# Altium footprint library uControllerTemplate2021.PcbLib: 18 footprints (part 1 of 2)
Each footprint in its own frame and in the unit in brackets; x right, y up, seen from the top. Pads: shape width x height; smd on the part's side, far side on the other; paste and mask are expansions set on the pad; w line width, h text height; cw(c..) or ccw(c..) is an arc to the next point about the centre after c.
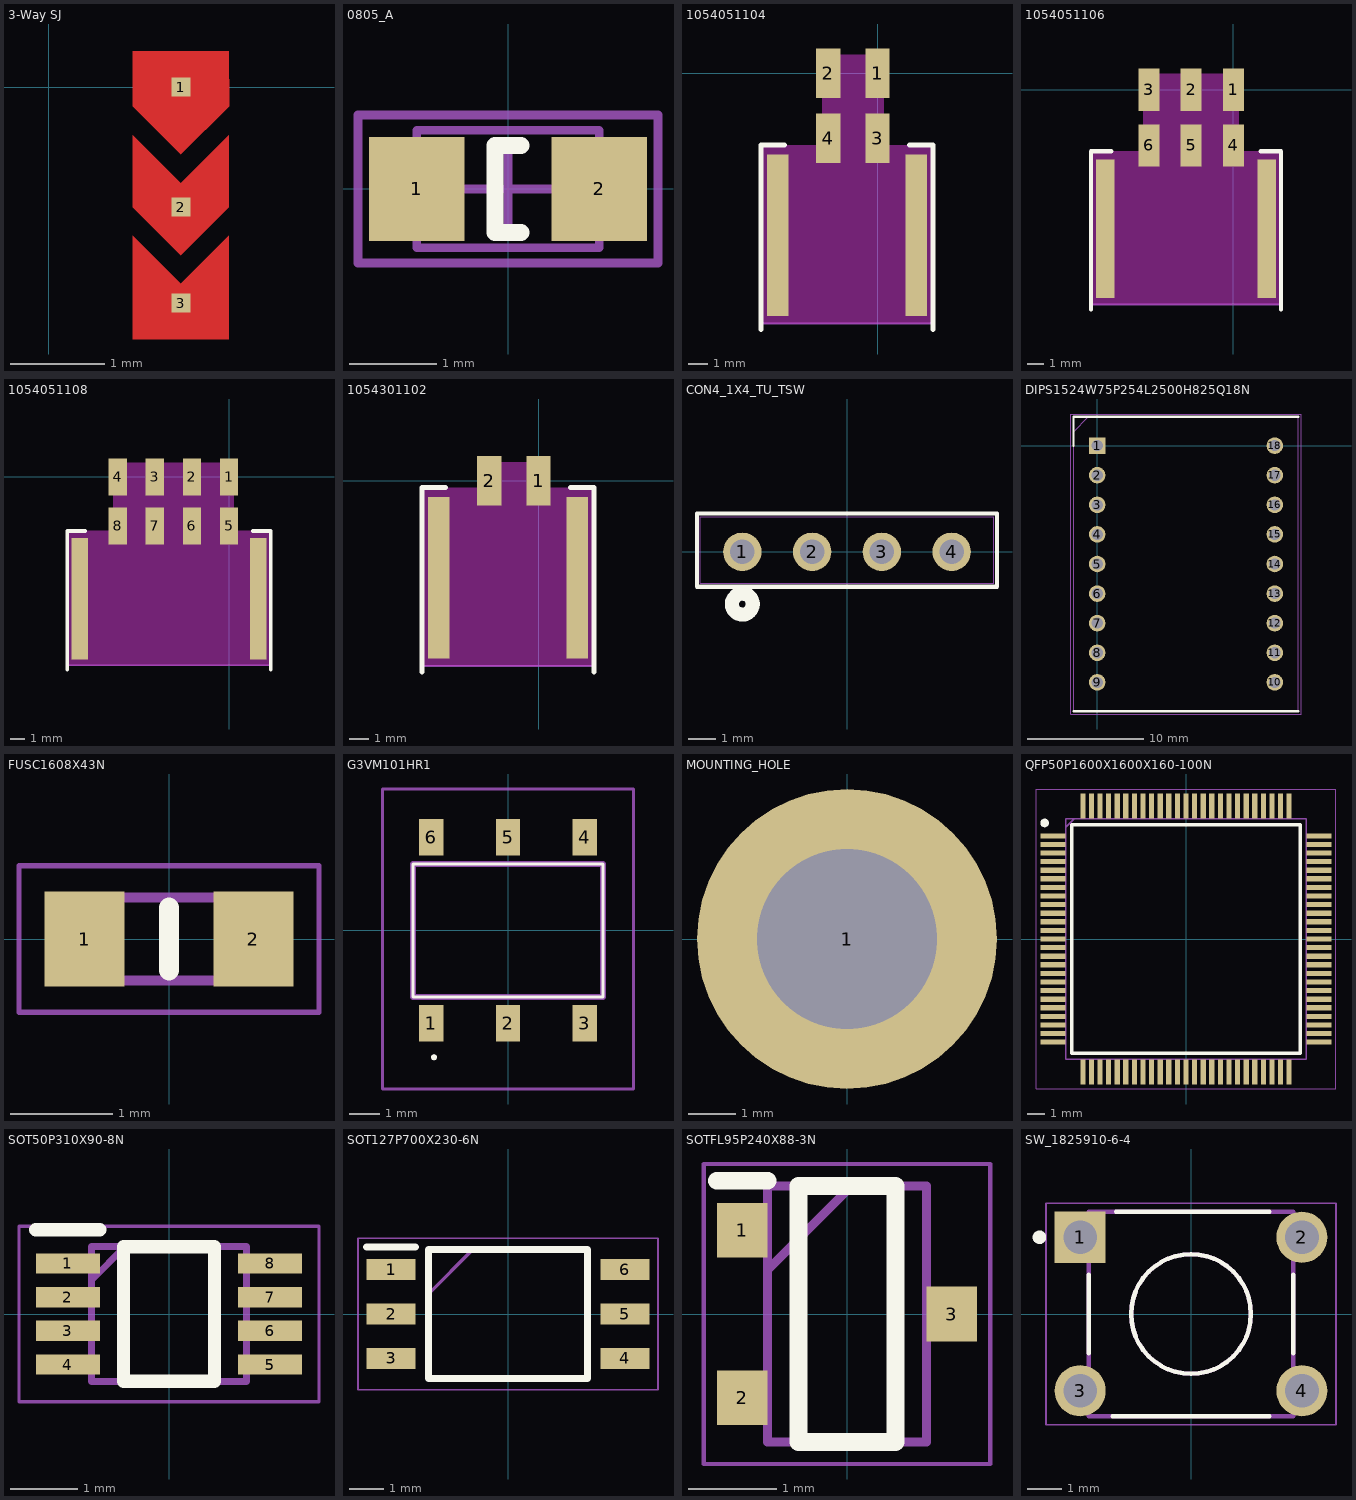
[diagram p0: the footprints below, top view; thin cyan lines are the x and y axes]

## 3-Way SJ [mm]
pads (3):
  rect 0.2x0.2 smd mask+0: 1(1.397,0) 2(1.397,-1.27) 3(1.397,-2.286)
Top Layer:
  region: 0.889,0.381 0.889,-0.203 1.397,-0.711 1.905,-0.203 1.905,0.381
  pour cut-out: 0.635,0.508
  pour cut-out: 0.889,-0.508
  region: 0.889,-0.508
  region: 0.889,-0.508 0.889,-1.27 1.397,-1.778 1.905,-1.27 1.905,-0.508 1.397,-1.016
  region: 0.889,-1.575 0.889,-2.667 1.905,-2.667 1.905,-1.575 1.397,-2.083

## 0805_A [mm] "Chip LED, 2-Leads, Body 2.0x1.3mm, IPC Medium Density"
height 0.8
pads (2):
  rect 1.1x1.2 smd: 1(-1.05,0) 2(1.05,0)
Top Overlay:
  lines w0.2: 0.15,-0.5 -0.15,-0.5 -0.15,0.5 0.15,0.5
Mechanical 13:
  lines w0.1: -1.05,-0.675 1.05,-0.675 1.05,0.675 -1.05,0.675 -1.05,-0.675
Mechanical 15:
  lines w0.1: -0.5,0 0.5,0 ; 0,-0.5 0,0.5 ; -1.725,-0.85 1.725,-0.85 1.725,0.85 -1.725,0.85 -1.725,-0.85
3D body "WL-SMCW_0805_LED.stp": height 0.68, standoff -0.02, extent -1,-0.625 1,0.625

## 1054051104 [mm] "Nano-Fit Right-Angle Header, Surface Mount, 2.50mm Pitch, Dual Row, 4 Circuits, 0.76µm Tin (Sn) Plating, Black, Glow-Wire Capable"
pads (6):
  rect 1.24x2.5 smd: 1(0,0) 2(-2.5,0) 3(0,-3.3) 4(-2.5,-3.3)
  rect 1.1x8.2 smd: ""(-5.07,-8.23) ""(1.97,-8.23)
Top Overlay:
  lines w0.254: -5.92,-13 -5.92,-3.64 -4.72,-3.64 ; 1.62,-3.64 2.82,-3.64 2.82,-13
Keep-Out Layer:
  region: 2.82,-12.7 -5.92,-12.7 -5.92,-3.64 -2.82,-3.64 -2.82,0.95 0.32,0.95 0.32,-3.64 2.82,-3.64
Mechanical 1:
  lines w0.1: -5.92,-12.7 2.82,-12.7
  text "PCB EDGE" at -3.466,-12.5 h0.5
3D body "1054051304.stp": height 9.5, standoff 0.01, extent -5.895,-14.173 2.845,0.567

## 1054051106 [mm] "Nano-Fit Right-Angle Header, Surface Mount, 2.50mm Pitch, Dual Row, 6 Circuits, 0.76µm Tin (Sn) Plating, Black, Glow-Wire Capable"
pads (8):
  rect 1.24x2.5 smd: 1(0,0) 2(-2.5,0) 3(-5,0) 4(0,-3.3) 5(-2.5,-3.3) 6(-5,-3.3)
  rect 1.1x8.2 smd: ""(-7.57,-8.23) ""(1.97,-8.23)
Top Overlay:
  lines w0.254: -8.42,-13 -8.42,-3.64 -7.22,-3.64 ; 1.62,-3.64 2.82,-3.64 2.82,-13
Keep-Out Layer:
  region: 2.82,-12.7 -8.42,-12.7 -8.42,-3.64 -5.32,-3.64 -5.32,0.95 0.32,0.95 0.32,-3.64 2.82,-3.64
Mechanical 1:
  lines w0.1: -8.42,-12.7 2.82,-12.7
  text "PCB EDGE" at -4.716,-12.5 h0.5
3D body "1054051306.stp": height 9.5, standoff 0.01, extent -8.421,-14.173 2.819,0.567

## 1054051108 [mm] "Nano-Fit Right-Angle Header, Surface Mount, 2.50mm Pitch, Dual Row, 8 Circuits, 0.76µm Tin (Sn) Plating, Black, Glow-Wire Capable"
pads (10):
  rect 1.24x2.5 smd: 1(0,0) 2(-2.5,0) 3(-5,0) 4(-7.5,0) 5(0,-3.3) 6(-2.5,-3.3) 7(-5,-3.3) 8(-7.5,-3.3)
  rect 1.1x8.2 smd: ""(-10.07,-8.23) ""(1.97,-8.23)
Top Overlay:
  lines w0.254: -10.92,-13 -10.92,-3.64 -9.72,-3.64 ; 1.62,-3.64 2.82,-3.64 2.82,-13
Keep-Out Layer:
  region: 2.82,-12.7 -10.92,-12.7 -10.92,-3.64 -7.82,-3.64 -7.82,0.95 0.32,0.95 0.32,-3.64 2.82,-3.64
Mechanical 1:
  lines w0.1: -10.92,-12.7 2.82,-12.7
  text "PCB EDGE" at -5.966,-12.5 h0.5
3D body "1054051308.stp": height 9.5, standoff 0.01, extent -10.909,-14.173 2.831,0.567

## 1054301102 [mm] "Nano-Fit Right-Angle Header, Surface Mount, 2.50mm Pitch, Single Row, 2 Circuits, 0.76µm Tin (Sn) Plating, Black, Glow-Wire Capable"
pads (4):
  rect 1.24x2.5 smd: 1(0,0) 2(-2.5,0)
  rect 1.1x8.2 smd: ""(-5.07,-4.93) ""(1.97,-4.93)
Top Overlay:
  lines w0.254: -5.92,-9.7 -5.92,-0.34 -4.72,-0.34 ; 1.62,-0.34 2.82,-0.34 2.82,-9.7
Keep-Out Layer:
  region: 2.82,-9.4 -5.92,-9.4 -5.92,-0.34 -2.82,-0.34 -2.82,0.95 0.32,0.95 0.32,-0.34 2.82,-0.34
Mechanical 1:
  lines w0.1: -5.92,-9.4 2.82,-9.4
  text "PCB EDGE" at -3.466,-9.2 h0.5
3D body "1054301102.stp": height 6.95, standoff -0.04, extent -5.921,-10.871 2.819,0.559

## CON4_1X4_TU_TSW [mil]
pads (4):
  round 55 hole 35 mask+0: 1(-150,0) 2(-50,0) 3(50,0) 4(150,0)
Top Overlay:
  circle w20: c-150,-75 r15
  lines w6: -215,-50 -215,55 215,55 215,-50 -215,-50
Bottom Overlay:
  circle w20: c-150,-75 r15
Mechanical 13:
  circle w0: c-150,0 r10
  lines w1: -210,-45 -210,50 210,50 210,-45 -210,-45
3D body: height 10, standoff 0, extent 0,0 10,10
3D body "CON4_1X4_TU_TSW.step": height 500, standoff -200, extent -199.99,-49.99 200.01,50.01

## DIPS1524W75P254L2500H825Q18N [mm]
pads (18):
  rect 1.425x1.425 hole 0.95: 1(0,0)
  round 1.425 hole 0.95: 2(0,-2.54) 3(0,-5.08) 4(0,-7.62) 5(0,-10.16) 6(0,-12.7) 7(0,-15.24) 8(0,-17.78) 9(0,-20.32) 10(15.24,-20.32) 11(15.24,-17.78) 12(15.24,-15.24) 13(15.24,-12.7) 14(15.24,-10.16) 15(15.24,-7.62) 16(15.24,-5.08) 17(15.24,-2.54) 18(15.24,0)
Top Overlay:
  lines w0.2: -2.03,-22.785 17.27,-22.785 ; -2.03,0 -2.03,2.465 17.27,2.465
Mechanical 13:
  lines w0.1: -2.03,1.195 -0.76,2.465 ; -2.03,-22.785 -2.03,2.465 17.27,2.465 17.27,-22.785 -2.03,-22.785
Mechanical 15:
  lines w0.05: -2.28,-23.035 -2.28,2.715 17.52,2.715 17.52,-23.035 -2.28,-23.035
3D body: height 0, standoff -2, extent -0.266,-20.578 0.232,-20.079
3D body: height 0, standoff -2, extent -0.266,-18.038 0.232,-17.539
3D body: height 0, standoff -2, extent -0.266,-15.498 0.232,-14.999
3D body: height 0, standoff -2, extent -0.266,-12.958 0.232,-12.459
3D body: height 0, standoff -2, extent -0.266,-10.418 0.232,-9.919
3D body: height 0, standoff -2, extent -0.266,-7.878 0.232,-7.379
3D body: height 0, standoff -2, extent -0.266,-5.338 0.232,-4.839
3D body: height 0, standoff -2, extent -0.266,-2.798 0.232,-2.299
3D body: height 0, standoff -2, extent -0.266,-0.258 0.232,0.241
3D body: height 0, standoff -2, extent 14.974,-20.578 15.472,-20.079
3D body: height 0, standoff -2, extent 14.974,-18.038 15.472,-17.539
3D body: height 0, standoff -2, extent 14.974,-15.498 15.472,-14.999
3D body: height 0, standoff -2, extent 14.974,-12.958 15.472,-12.459
3D body: height 0, standoff -2, extent 14.974,-10.418 15.472,-9.919
3D body: height 0, standoff -2, extent 14.974,-7.878 15.472,-7.379
3D body: height 0, standoff -2, extent 14.974,-2.798 15.472,-2.299
3D body: height 0, standoff -2, extent 14.974,-0.258 15.472,0.241
3D body: height 0, standoff -2, extent 14.992,-5.329 15.49,-4.83
3D body: height 0.25, standoff 0, extent 19.406,-8.128 19.406,-8.128
3D body: height 0.25, standoff 0, extent 0,0 0,0
3D body: height 8, standoff 0, extent -2.032,-22.784 17.272,2.464

## FUSC1608X43N [mm]
pads (2):
  rect 0.78x0.93 smd: 1(-0.825,0) 2(0.825,0)
Top Overlay:
  lines w0.2: 0,-0.306 0,0.306
Mechanical 13:
  lines w0.1: -0.8,-0.406 0.8,-0.406 0.8,0.406 -0.8,0.406 -0.8,-0.406
Mechanical 15:
  lines w0.05: -1.465,-0.715 1.465,-0.715 1.465,0.715 -1.465,0.715 -1.465,-0.715
3D body "046701.5NR.stp": height 0.43, standoff 0, extent -0.8,-0.406 0.8,0.406

## G3VM101HR1 [mm]
pads (6):
  rect 0.8x1.2 smd: 1(-2.54,-3.075) 2(0,-3.075) 3(2.54,-3.075) 4(2.54,3.075) 5(0,3.075) 6(-2.54,3.075)
Top Overlay:
  lines w0.1: -3.15,-2.2 -3.15,2.2 3.15,2.2 3.15,-2.2 -3.15,-2.2 ; -2.5,-4.2 ccw(c-2.45,-4.2) -2.4,-4.2 ccw(c-2.45,-4.2) -2.5,-4.2
Mechanical 13:
  lines w0.2: -3.15,-2.2 -3.15,2.2 3.15,2.2 3.15,-2.2 -3.15,-2.2
Mechanical 15:
  lines w0.1: -4.15,-5.25 -4.15,4.675 4.15,4.675 4.15,-5.25 -4.15,-5.25
3D body "SOP254P700X210-6N.step": height 2.1, standoff 0, extent -3.3,-3.5 3.3,3.5

## MOUNTING_HOLE [mm] "Mounting Hole for 1/8\"-20 Thread Size, 1-1/8\" Long Black-Oxide Alloy Steel Socket Head Screw"
pads (1):
  round 6.35 hole 3.81: 1(0,0)

## QFP50P1600X1600X160-100N [mm]
pads (100):
  rect 1.475x0.3 smd: 1(-7.738,6) 2(-7.738,5.5) 3(-7.738,5) 4(-7.738,4.5) 5(-7.738,4) 6(-7.738,3.5) 7(-7.738,3) 8(-7.738,2.5) 9(-7.738,2) 10(-7.738,1.5) 11(-7.738,1) 12(-7.738,0.5) 13(-7.738,0) 14(-7.738,-0.5) 15(-7.738,-1) 16(-7.738,-1.5) 17(-7.738,-2) 18(-7.738,-2.5) 19(-7.738,-3) 20(-7.738,-3.5) 21(-7.738,-4) 22(-7.738,-4.5) 23(-7.738,-5) 24(-7.738,-5.5) 25(-7.738,-6) 51(7.738,-6) 52(7.738,-5.5) 53(7.738,-5) 54(7.738,-4.5) 55(7.738,-4) 56(7.738,-3.5) 57(7.738,-3) 58(7.738,-2.5) 59(7.738,-2) 60(7.738,-1.5) 61(7.738,-1) 62(7.738,-0.5) 63(7.738,0) 64(7.738,0.5) 65(7.738,1) 66(7.738,1.5) 67(7.738,2) 68(7.738,2.5) 69(7.738,3) 70(7.738,3.5) 71(7.738,4) 72(7.738,4.5) 73(7.738,5) 74(7.738,5.5) 75(7.738,6)
  rect 0.3x1.475 smd: 26(-6,-7.738) 27(-5.5,-7.738) 28(-5,-7.738) 29(-4.5,-7.738) 30(-4,-7.738) 31(-3.5,-7.738) 32(-3,-7.738) 33(-2.5,-7.738) 34(-2,-7.738) 35(-1.5,-7.738) 36(-1,-7.738) 37(-0.5,-7.738) 38(0,-7.738) 39(0.5,-7.738) 40(1,-7.738) 41(1.5,-7.738) 42(2,-7.738) 43(2.5,-7.738) 44(3,-7.738) 45(3.5,-7.738) 46(4,-7.738) 47(4.5,-7.738) 48(5,-7.738) 49(5.5,-7.738) 50(6,-7.738) 76(6,7.738) 77(5.5,7.738) 78(5,7.738) 79(4.5,7.738) 80(4,7.738) 81(3.5,7.738) 82(3,7.738) 83(2.5,7.738) 84(2,7.738) 85(1.5,7.738) 86(1,7.738) 87(0.5,7.738) 88(0,7.738) 89(-0.5,7.738) 90(-1,7.738) 91(-1.5,7.738) 92(-2,7.738) 93(-2.5,7.738) 94(-3,7.738) 95(-3.5,7.738) 96(-4,7.738) 97(-4.5,7.738) 98(-5,7.738) 99(-5.5,7.738) 100(-6,7.738)
Top Overlay:
  circle w0.25: c-8.225,6.75 r0.125
  lines w0.2: -6.65,-6.65 -6.65,6.65 6.65,6.65 6.65,-6.65 -6.65,-6.65
Mechanical 13:
  lines w0.1: -7,6.5 -6.5,7 ; -7,-7 -7,7 7,7 7,-7 -7,-7
Mechanical 15:
  lines w0.05: -8.725,-8.725 -8.725,8.725 8.725,8.725 8.725,-8.725 -8.725,-8.725
3D body "STM32F469VGT6.stp": height 1.6, standoff 0, extent -8,-8 8,8

## SOT50P310X90-8N [mm]
pads (8):
  rect 0.95x0.3 smd: 1(-1.5,0.75) 2(-1.5,0.25) 3(-1.5,-0.25) 4(-1.5,-0.75) 5(1.5,-0.75) 6(1.5,-0.25) 7(1.5,0.25) 8(1.5,0.75)
Top Overlay:
  lines w0.2: -1.975,1.25 -1.025,1.25 ; -0.675,-1 -0.675,1 0.675,1 0.675,-1 -0.675,-1
Mechanical 13:
  lines w0.1: -1.15,0.5 -0.65,1 ; -1.15,-1 -1.15,1 1.15,1 1.15,-1 -1.15,-1
Mechanical 15:
  lines w0.05: -2.225,-1.3 -2.225,1.3 2.225,1.3 2.225,-1.3 -2.225,-1.3
3D body "SN74AUP1G74DCUR.stp": height 0.9, standoff 0, extent -1.55,-1 1.55,1

## SOT127P700X230-6N [mm]
pads (6):
  rect 1.4x0.6 smd: 1(-3.35,1.27) 2(-3.35,0) 3(-3.35,-1.27) 4(3.35,-1.27) 5(3.35,0) 6(3.35,1.27)
Top Overlay:
  lines w0.2: -4.05,1.92 -2.65,1.92 ; -2.275,-1.85 2.275,-1.85 2.275,1.85 -2.275,1.85 -2.275,-1.85
Mechanical 13:
  lines w0.1: -2.275,0.58 -1.005,1.85 ; -2.275,-1.85 2.275,-1.85 2.275,1.85 -2.275,1.85 -2.275,-1.85
Mechanical 15:
  lines w0.05: -4.3,-2.175 4.3,-2.175 4.3,2.175 -4.3,2.175 -4.3,-2.175
3D body "TLP116A_TPL,E.stp": height 2.3, standoff 0, extent -3.5,-1.85 3.5,1.85

## SOTFL95P240X88-3N [mm]
pads (3):
  rect 0.575x0.62 smd: 1(-1.188,0.95) 2(-1.188,-0.95) 3(1.188,0)
Top Overlay:
  lines w0.2: -1.475,1.51 -0.9,1.51 ; -0.55,-1.45 0.55,-1.45 0.55,1.45 -0.55,1.45 -0.55,-1.45
Mechanical 13:
  lines w0.1: -0.9,0.5 0.05,1.45 ; -0.9,-1.45 0.9,-1.45 0.9,1.45 -0.9,1.45 -0.9,-1.45
Mechanical 15:
  lines w0.05: -1.625,-1.7 1.625,-1.7 1.625,1.7 -1.625,1.7 -1.625,-1.7
3D body "SSM3K339R,LF.stp": height 0.88, standoff 0, extent -1.2,-1.45 1.2,1.45

## SW_1825910-6-4 [mm]
pads (4):
  rect 1.498x1.498 hole 0.99: 1(-3.25,2.25)
  round 1.498 hole 0.99: 2(3.25,2.25) 3(-3.25,-2.25) 4(3.25,-2.25)
Top Overlay:
  circle w0.127: c0,0 r1.755
  circle w0.2: c-4.445,2.25 r0.1
  lines w0.127: -2.995,-1.15 -2.995,1.15 ; -2.3,-2.995 2.3,-2.995 ; -2.2,2.995 2.3,2.995 ; 3,-1.15 3,1.15
Mechanical 13:
  circle w0.127: c0,0 r1.755
  lines w0.127: -2.995,-2.995 -2.995,2.995 2.995,2.995 2.995,-2.995 -2.995,-2.995
Mechanical 15:
  lines w0.05: -4.25,-3.25 -4.25,3.25 4.25,3.25 4.25,-3.25 -4.25,-3.25
3D body "FSM4JH(1825910-6).step": height 5, standoff -3.51, extent -3.898,-2.995 3.9,2.995